# EAGLE library part MMA7260QT (library MMA7260QT)
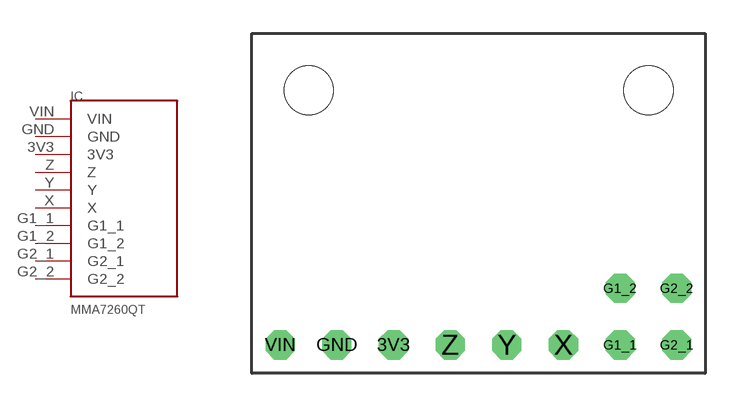
[diagram p0: symbol with the pads of POLOLU; footprint POLOLU]

Designator prefix IC

## MMA7260QT  [POLOLU]
3V3  3V3
G1_1  G1_1
G1_2  G1_2
G2_1  G2_1
G2_2  G2_2
GND  GND
VIN  VIN
X  X
Y  Y
Z  Z

## Footprint POLOLU (pad centres in mm)
drill 0.8 octagon: 3V3 -3.81,-6.35; G1_1 6.35,-6.35; G1_2 6.35,-3.81; G2_1 8.89,-6.35; G2_2 8.89,-3.81; GND -6.35,-6.35; VIN -8.89,-6.35; X 3.81,-6.35; Y 1.27,-6.35; Z -1.27,-6.35
hole 2.2 at -7.62,5.08
hole 2.2 at 7.62,5.08